# EAGLE library part 74CBTLV3125 (library cpio)
4-bit bus switch
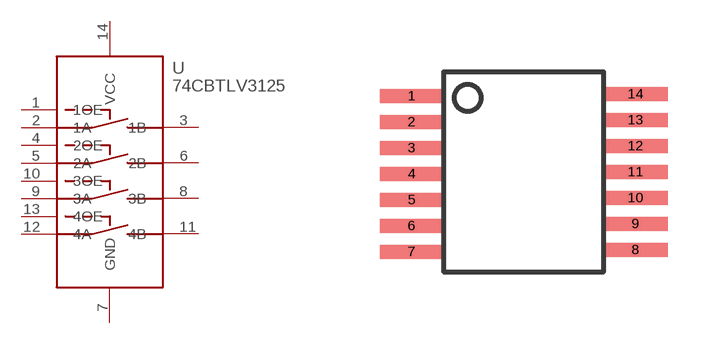
[diagram p2: symbol with the pads of TSSOP-14; footprint TSSOP-14]

Designator prefix -

## 74CBTLV3125  [TSSOP-14]
1  1OE  in
2  1A  in
3  1B  out
4  2OE  in
5  2A  in
6  2B  out
7  GND  pwr
8  3B  out
9  3A  in
10  3OE  in
11  4B  out
12  4A  in
13  4OE  in
14  VCC  pwr

## Footprint TSSOP-14 (pad centres in mm)
smd 1.6 x 0.35: 1 -2.8,1.9; 2 -2.8,1.25; 3 -2.8,0.6; 4 -2.8,-0.05; 5 -2.8,-0.7; 6 -2.8,-1.35; 7 -2.8,-2; 8 2.8,-1.95; 9 2.8,-1.3; 10 2.8,-0.65; 11 2.8,0; 12 2.8,0.65; 13 2.8,1.3; 14 2.8,1.95